# Altium integrated library Actel ProASIC3E.IntLib: 182 symbols (part 11 of 49)
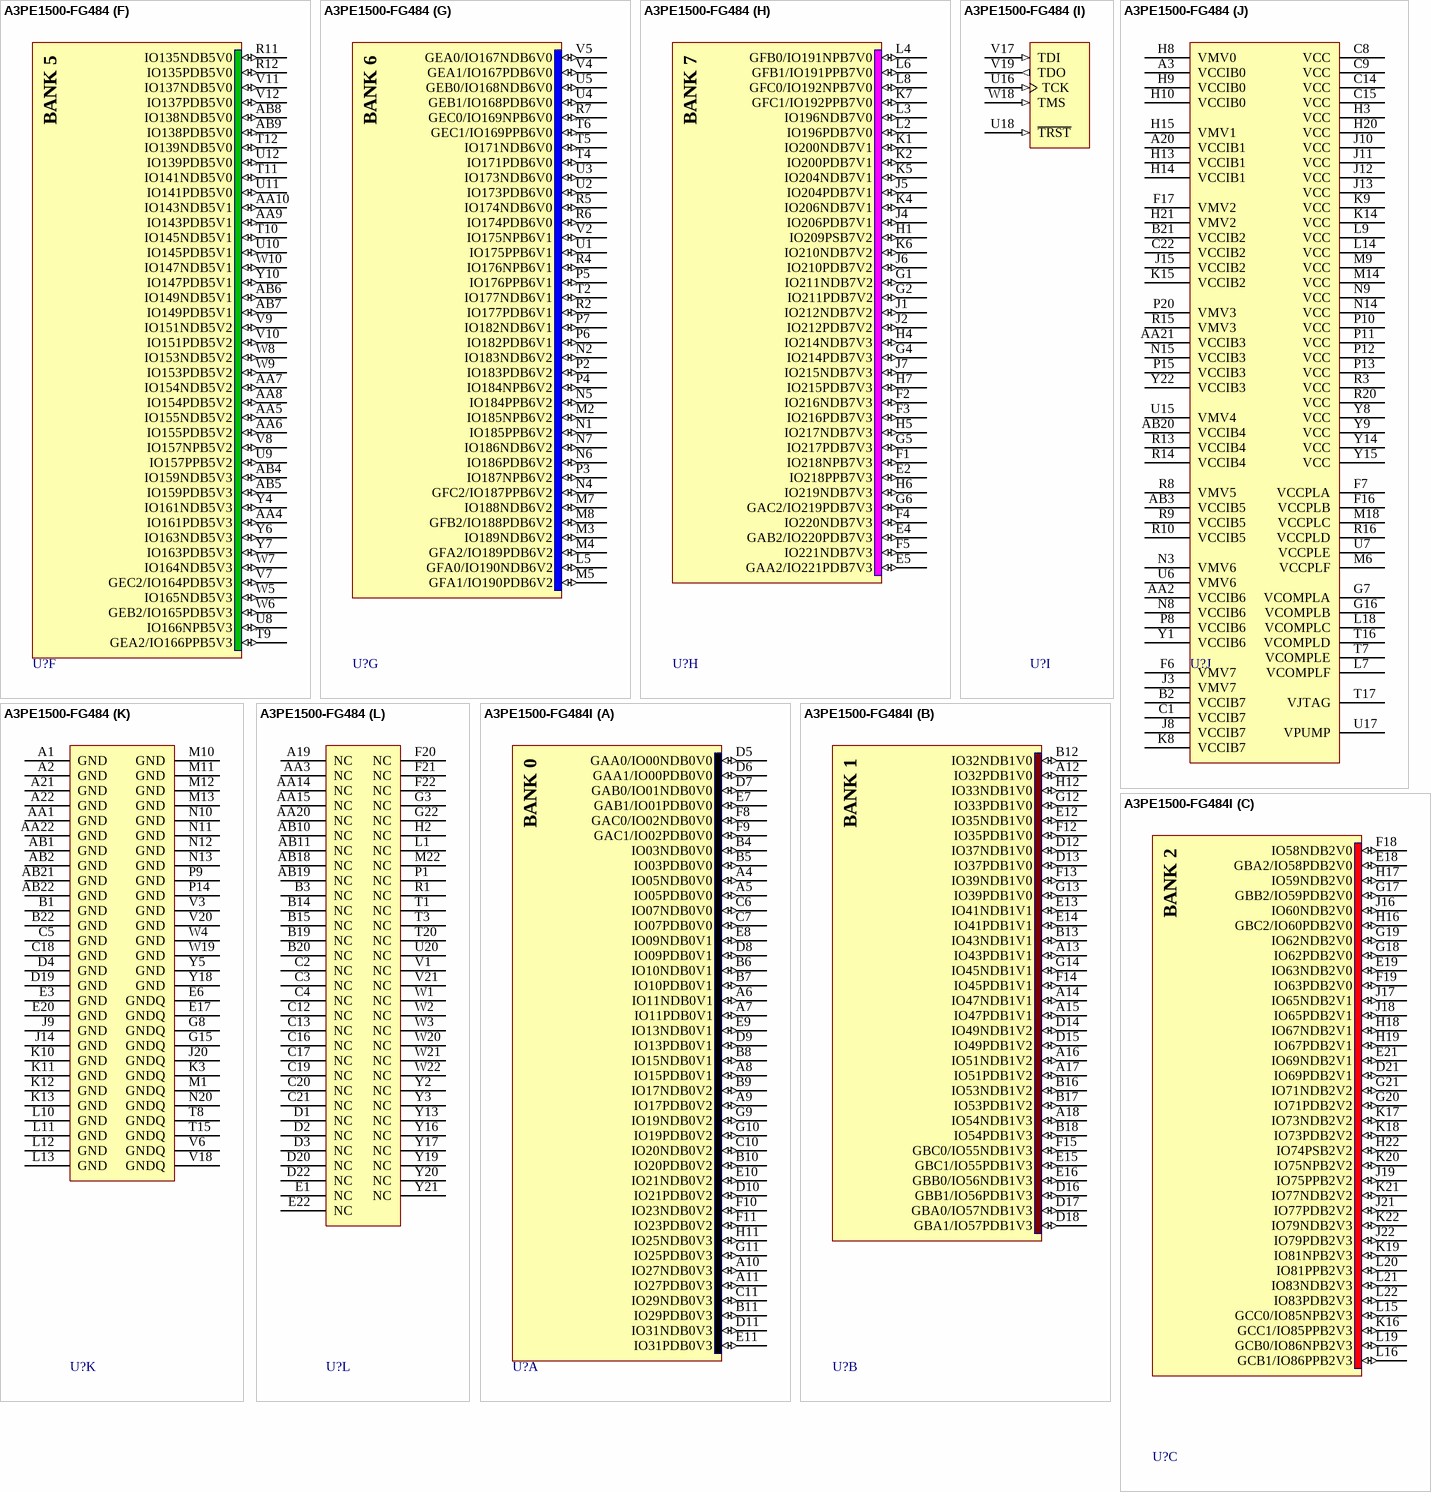
[diagram p221: symbols A3PE1500-FG484 to A3PE1500-FG484I]

## A3PE1500-FG484
designator U?
ProASIC3E Flash Family FPGA, 280 User IOs, 1.5M System Gates, 270 Kbits RAM, 1 Kbit FlashROM, 6 PLLs, 484-Ball FBGA, Commercial Grade; DatasheetVersion: v1.1, Feb-2009; PackageVersion: rev39, Aug-2010; PackageReference: FG484; PackageDescription: 484-Ball Fine Pitch Plastic Ball Grid Array (FG484) - Fully Populated; Code_JEDEC: MS-034-AAJ-1; Code_IPC: BGA100P22X22-484; ComponentLink1Description: Manufacturer URL; ComponentLink1URL: http://www.actel.com/; ComponentLink2Description: ProASIC3 Datasheet; ComponentLink2URL: http://www.actel.com/documents/PA3E_DS.pdf; ComponentLink3Description: Package Mechanical Drawings; ComponentLink3URL: http://www.actel.com/documents/PckgMechDrwngs.pdf; ComponentLink4Description: ProASIC3 Documents; ComponentLink4URL: http://www.actel.com/products/pa3/docs.aspx
footprint FG484 (BGA, 484-Leads, Body 23x23mm, Pitch 1mm)
part A pins: A4 IO05NDB0V0 (io), A5 IO05PDB0V0 (io), A6 IO11NDB0V1 (io), A7 IO11PDB0V1 (io), A8 IO15PDB0V1 (io), A9 IO17PDB0V2 (io), A10 IO27NDB0V3 (io), A11 IO27PDB0V3 (io), B4 IO03NDB0V0 (io), B5 IO03PDB0V0 (io), B6 IO10NDB0V1 (io), B7 IO10PDB0V1 (io), B8 IO15NDB0V1 (io), B9 IO17NDB0V2 (io), B10 IO20PDB0V2 (io), B11 IO29PDB0V3 (io), C6 IO07NDB0V0 (io), C7 IO07PDB0V0 (io), C10 IO20NDB0V2 (io), C11 IO29NDB0V3 (io), D5 GAA0/IO00NDB0V0 (io), D6 GAA1/IO00PDB0V0 (io), D7 GAB0/IO01NDB0V0 (io), D8 IO09PDB0V1 (io), D9 IO13PDB0V1 (io), D10 IO21PDB0V2 (io), D11 IO31NDB0V3 (io), E7 GAB1/IO01PDB0V0 (io), E8 IO09NDB0V1 (io), E9 IO13NDB0V1 (io), E10 IO21NDB0V2 (io), E11 IO31PDB0V3 (io), F8 GAC0/IO02NDB0V0 (io), F9 GAC1/IO02PDB0V0 (io), F10 IO23NDB0V2 (io), F11 IO23PDB0V2 (io), G9 IO19NDB0V2 (io), G10 IO19PDB0V2 (io), G11 IO25PDB0V3 (io), H11 IO25NDB0V3 (io)
part B pins: A12 IO32PDB1V0 (io), A13 IO43PDB1V1 (io), A14 IO47NDB1V1 (io), A15 IO47PDB1V1 (io), A16 IO51NDB1V2 (io), A17 IO51PDB1V2 (io), A18 IO54NDB1V3 (io), B12 IO32NDB1V0 (io), B13 IO43NDB1V1 (io), B16 IO53NDB1V2 (io), B17 IO53PDB1V2 (io), B18 IO54PDB1V3 (io), D12 IO37NDB1V0 (io), D13 IO37PDB1V0 (io), D14 IO49NDB1V2 (io), D15 IO49PDB1V2 (io), D16 GBB1/IO56PDB1V3 (io), D17 GBA0/IO57NDB1V3 (io), D18 GBA1/IO57PDB1V3 (io), E12 IO35NDB1V0 (io), E13 IO41NDB1V1 (io), E14 IO41PDB1V1 (io), E15 GBC1/IO55PDB1V3 (io), E16 GBB0/IO56NDB1V3 (io), F12 IO35PDB1V0 (io), F13 IO39NDB1V0 (io), F14 IO45PDB1V1 (io), F15 GBC0/IO55NDB1V3 (io), G12 IO33PDB1V0 (io), G13 IO39PDB1V0 (io), G14 IO45NDB1V1 (io), H12 IO33NDB1V0 (io)
part C pins: D21 IO69PDB2V1 (io), E18 GBA2/IO58PDB2V0 (io), E19 IO63NDB2V0 (io), E21 IO69NDB2V1 (io), F18 IO58NDB2V0 (io), F19 IO63PDB2V0 (io), G17 GBB2/IO59PDB2V0 (io), G18 IO62PDB2V0 (io), G19 IO62NDB2V0 (io), G20 IO71PDB2V2 (io), G21 IO71NDB2V2 (io), H16 GBC2/IO60PDB2V0 (io), H17 IO59NDB2V0 (io), H18 IO67NDB2V1 (io), H19 IO67PDB2V1 (io), H22 IO74PSB2V2 (io), J16 IO60NDB2V0 (io), J17 IO65NDB2V1 (io), J18 IO65PDB2V1 (io), J19 IO75PPB2V2 (io), J21 IO77PDB2V2 (io), J22 IO79PDB2V3 (io), K16 GCC1/IO85PPB2V3 (io), K17 IO73NDB2V2 (io), K18 IO73PDB2V2 (io), K19 IO81NPB2V3 (io), K20 IO75NPB2V2 (io), K21 IO77NDB2V2 (io), K22 IO79NDB2V3 (io), L15 GCC0/IO85NPB2V3 (io), L16 GCB1/IO86PPB2V3 (io), L19 GCB0/IO86NPB2V3 (io), L20 IO81PPB2V3 (io), L21 IO83NDB2V3 (io), L22 IO83PDB2V3 (io)
part D pins: L17 GCA0/IO87NPB3V0 (io), M15 GCB2/IO89PPB3V0 (io), M16 GCA1/IO87PPB3V0 (io), M17 GCC2/IO90PPB3V0 (io), M19 GCA2/IO88PDB3V0 (io), M20 IO88NDB3V0 (io), M21 IO93PDB3V0 (io), N16 IO89NPB3V0 (io), N17 IO91NPB3V0 (io), N18 IO90NPB3V0 (io), N19 IO91PPB3V0 (io), N21 IO93NDB3V0 (io), N22 IO95PDB3V1 (io), P16 GDB0/IO109NPB3V2 (io), P17 IO97NDB3V1 (io), P18 IO97PDB3V1 (io), P19 IO99PDB3V1 (io), P21 IO98PDB3V1 (io), P22 IO95NDB3V1 (io), R17 GDB1/IO109PPB3V2 (io), R18 GDC1/IO108PDB3V2 (io), R19 IO99NDB3V1 (io), R21 IO98NDB3V1 (io), R22 IO101PDB3V1 (io), T18 GDC0/IO108NDB3V2 (io), T19 GDA1/IO110PDB3V2 (io), T21 IO103PDB3V2 (io), T22 IO101NDB3V1 (io), U19 GDA0/IO110NDB3V2 (io), U21 IO103NDB3V2 (io), U22 IO105PDB3V2 (io), V22 IO105NDB3V2 (io)
part E pins: AA11 IO131PPB4V2 (io), AA12 IO129NDB4V2 (io), AA13 IO129PDB4V2 (io), AA16 IO117NDB4V0 (io), AA17 IO117PDB4V0 (io), AA18 IO115NDB4V0 (io), AA19 IO115PDB4V0 (io), AB12 IO127NDB4V2 (io), AB13 IO127PDB4V2 (io), AB14 IO125NDB4V1 (io), AB15 IO125PDB4V1 (io), AB16 IO122NDB4V1 (io), AB17 IO122PDB4V1 (io), T13 IO119NDB4V1 (io), T14 IO119PDB4V1 (io), U13 IO121NDB4V1 (io), U14 IO121PDB4V1 (io), V13 IO123NDB4V1 (io), V14 IO123PDB4V1 (io), V15 IO112NDB4V0 (io), V16 GDB2/IO112PDB4V0 (io), W11 IO133NDB4V2 (io), W12 IO130NDB4V2 (io), W13 IO130PDB4V2 (io), W14 IO113NDB4V0 (io), W15 GDC2/IO113PDB4V0 (io), W16 IO111NDB4V0 (io), W17 GDA2/IO111PDB4V0 (io), Y11 IO133PDB4V2 (io), Y12 IO131NPB4V2 (io)
part F pins: AA4 IO161PDB5V3 (io), AA5 IO155NDB5V2 (io), AA6 IO155PDB5V2 (io), AA7 IO154NDB5V2 (io), AA8 IO154PDB5V2 (io), AA9 IO143PDB5V1 (io), AA10 IO143NDB5V1 (io), AB4 IO159NDB5V3 (io), AB5 IO159PDB5V3 (io), AB6 IO149NDB5V1 (io), AB7 IO149PDB5V1 (io), AB8 IO138NDB5V0 (io), AB9 IO138PDB5V0 (io), R11 IO135NDB5V0 (io), R12 IO135PDB5V0 (io), T9 GEA2/IO166PPB5V3 (io), T10 IO145NDB5V1 (io), T11 IO141NDB5V0 (io), T12 IO139NDB5V0 (io), U8 IO166NPB5V3 (io), U9 IO157PPB5V2 (io), U10 IO145PDB5V1 (io), U11 IO141PDB5V0 (io), U12 IO139PDB5V0 (io), V7 GEC2/IO164PDB5V3 (io), V8 IO157NPB5V2 (io), V9 IO151NDB5V2 (io), V10 IO151PDB5V2 (io), V11 IO137NDB5V0 (io), V12 IO137PDB5V0 (io), W5 IO165NDB5V3 (io), W6 GEB2/IO165PDB5V3 (io), W7 IO164NDB5V3 (io), W8 IO153NDB5V2 (io), W9 IO153PDB5V2 (io), W10 IO147NDB5V1 (io), Y4 IO161NDB5V3 (io), Y6 IO163NDB5V3 (io), Y7 IO163PDB5V3 (io), Y10 IO147PDB5V1 (io)
part G pins: L5 GFA0/IO190NDB6V2 (io), M2 IO185NPB6V2 (io), M3 IO189NDB6V2 (io), M4 GFA2/IO189PDB6V2 (io), M5 GFA1/IO190PDB6V2 (io), M7 IO188NDB6V2 (io), M8 GFB2/IO188PDB6V2 (io), N1 IO185PPB6V2 (io), N2 IO183NDB6V2 (io), N4 GFC2/IO187PPB6V2 (io), N5 IO184PPB6V2 (io), N6 IO186PDB6V2 (io), N7 IO186NDB6V2 (io), P2 IO183PDB6V2 (io), P3 IO187NPB6V2 (io), P4 IO184NPB6V2 (io), P5 IO176PPB6V1 (io), P6 IO182PDB6V1 (io), P7 IO182NDB6V1 (io), R2 IO177PDB6V1 (io), R4 IO176NPB6V1 (io), R5 IO174NDB6V0 (io), R6 IO174PDB6V0 (io), R7 GEC0/IO169NPB6V0 (io), T2 IO177NDB6V1 (io), T4 IO171PDB6V0 (io), T5 IO171NDB6V0 (io), T6 GEC1/IO169PPB6V0 (io), U1 IO175PPB6V1 (io), U2 IO173PDB6V0 (io), U3 IO173NDB6V0 (io), U4 GEB1/IO168PDB6V0 (io), U5 GEB0/IO168NDB6V0 (io), V2 IO175NPB6V1 (io), V4 GEA1/IO167PDB6V0 (io), V5 GEA0/IO167NDB6V0 (io)
part H pins: E2 IO218PPB7V3 (io), E4 GAB2/IO220PDB7V3 (io), E5 GAA2/IO221PDB7V3 (io), F1 IO218NPB7V3 (io), F2 IO216NDB7V3 (io), F3 IO216PDB7V3 (io), F4 IO220NDB7V3 (io), F5 IO221NDB7V3 (io), G1 IO211NDB7V2 (io), G2 IO211PDB7V2 (io), G4 IO214PDB7V3 (io), G5 IO217PDB7V3 (io), G6 GAC2/IO219PDB7V3 (io), H1 IO209PSB7V2 (io), H4 IO214NDB7V3 (io), H5 IO217NDB7V3 (io), H6 IO219NDB7V3 (io), H7 IO215PDB7V3 (io), J1 IO212NDB7V2 (io), J2 IO212PDB7V2 (io), J4 IO206PDB7V1 (io), J5 IO204PDB7V1 (io), J6 IO210PDB7V2 (io), J7 IO215NDB7V3 (io), K1 IO200NDB7V1 (io), K2 IO200PDB7V1 (io), K4 IO206NDB7V1 (io), K5 IO204NDB7V1 (io), K6 IO210NDB7V2 (io), K7 GFC1/IO192PPB7V0 (io), L2 IO196PDB7V0 (io), L3 IO196NDB7V0 (io), L4 GFB0/IO191NPB7V0 (io), L6 GFB1/IO191PPB7V0 (io), L8 GFC0/IO192NPB7V0 (io)
part I pins: U16 TCK (in), U18 ~{TRST} (in), V17 TDI (in), V19 TDO (out), W18 TMS (in)
part J pins: A3 VCCIB0 (power), A20 VCCIB1 (power), AA2 VCCIB6 (power), AA21 VCCIB3 (power), AB3 VCCIB5 (power), AB20 VCCIB4 (power), B2 VCCIB7 (power), B21 VCCIB2 (power), C1 VCCIB7 (power), C8 VCC (power), C9 VCC (power), C14 VCC (power), C15 VCC (power), C22 VCCIB2 (power), F6 VMV7 (power), F7 VCCPLA (power), F16 VCCPLB (power), F17 VMV2 (power), G7 VCOMPLA (power), G16 VCOMPLB (power), H3 VCC (power), H8 VMV0 (power), H9 VCCIB0 (power), H10 VCCIB0 (power), H13 VCCIB1 (power), H14 VCCIB1 (power), H15 VMV1 (power), H20 VCC (power), H21 VMV2 (power), J3 VMV7 (power), J8 VCCIB7 (power), J10 VCC (power), J11 VCC (power), J12 VCC (power), J13 VCC (power), J15 VCCIB2 (power), K8 VCCIB7 (power), K9 VCC (power), K14 VCC (power), K15 VCCIB2 (power), L7 VCOMPLF (power), L9 VCC (power), L14 VCC (power), L18 VCOMPLC (power), M6 VCCPLF (power), M9 VCC (power), M14 VCC (power), M18 VCCPLC (power), N3 VMV6 (power), N8 VCCIB6 (power), N9 VCC (power), N14 VCC (power), N15 VCCIB3 (power), P8 VCCIB6 (power), P10 VCC (power), P11 VCC (power), P12 VCC (power), P13 VCC (power), P15 VCCIB3 (power), P20 VMV3 (power), R3 VCC (power), R8 VMV5 (power), R9 VCCIB5 (power), R10 VCCIB5 (power), R13 VCCIB4 (power), R14 VCCIB4 (power), R15 VMV3 (power), R16 VCCPLD (power), R20 VCC (power), T7 VCOMPLE (power), T16 VCOMPLD (power), T17 VJTAG (power), U6 VMV6 (power), U7 VCCPLE (power), U15 VMV4 (power), U17 VPUMP (power), Y1 VCCIB6 (power), Y8 VCC (power), Y9 VCC (power), Y14 VCC (power), Y15 VCC (power), Y22 VCCIB3 (power)
part K pins: A1 GND (power), A2 GND (power), A21 GND (power), A22 GND (power), AA1 GND (power), AA22 GND (power), AB1 GND (power), AB2 GND (power), AB21 GND (power), AB22 GND (power), B1 GND (power), B22 GND (power), C5 GND (power), C18 GND (power), D4 GND (power), D19 GND (power), E3 GND (power), E6 GNDQ (power), E17 GNDQ (power), E20 GND (power), G8 GNDQ (power), G15 GNDQ (power), J9 GND (power), J14 GND (power), J20 GNDQ (power), K3 GNDQ (power), K10 GND (power), K11 GND (power), K12 GND (power), K13 GND (power), L10 GND (power), L11 GND (power), L12 GND (power), L13 GND (power), M1 GNDQ (power), M10 GND (power), M11 GND (power), M12 GND (power), M13 GND (power), N10 GND (power), N11 GND (power), N12 GND (power), N13 GND (power), N20 GNDQ (power), P9 GND (power), P14 GND (power), T8 GNDQ (power), T15 GNDQ (power), V3 GND (power), V6 GNDQ (power), V18 GNDQ (power), V20 GND (power), W4 GND (power), W19 GND (power), Y5 GND (power), Y18 GND (power)
part L pins: A19 NC, AA3 NC, AA14 NC, AA15 NC, AA20 NC, AB10 NC, AB11 NC, AB18 NC, AB19 NC, B3 NC, B14 NC, B15 NC, B19 NC, B20 NC, C2 NC, C3 NC, C4 NC, C12 NC, C13 NC, C16 NC, C17 NC, C19 NC, C20 NC, C21 NC, D1 NC, D2 NC, D3 NC, D20 NC, D22 NC, E1 NC, E22 NC, F20 NC, F21 NC, F22 NC, G3 NC, G22 NC, H2 NC, L1 NC, M22 NC, P1 NC, R1 NC, T1 NC, T3 NC, T20 NC, U20 NC, V1 NC, V21 NC, W1 NC, W2 NC, W3 NC, W20 NC, W21 NC, W22 NC, Y2 NC, Y3 NC, Y13 NC, Y16 NC, Y17 NC, Y19 NC, Y20 NC, Y21 NC
part A text: BANK 0
part B text: BANK 1
part C text: BANK 2
part D text: BANK 3
part E text: BANK 4
part F text: BANK 5
part G text: BANK 6
part H text: BANK 7

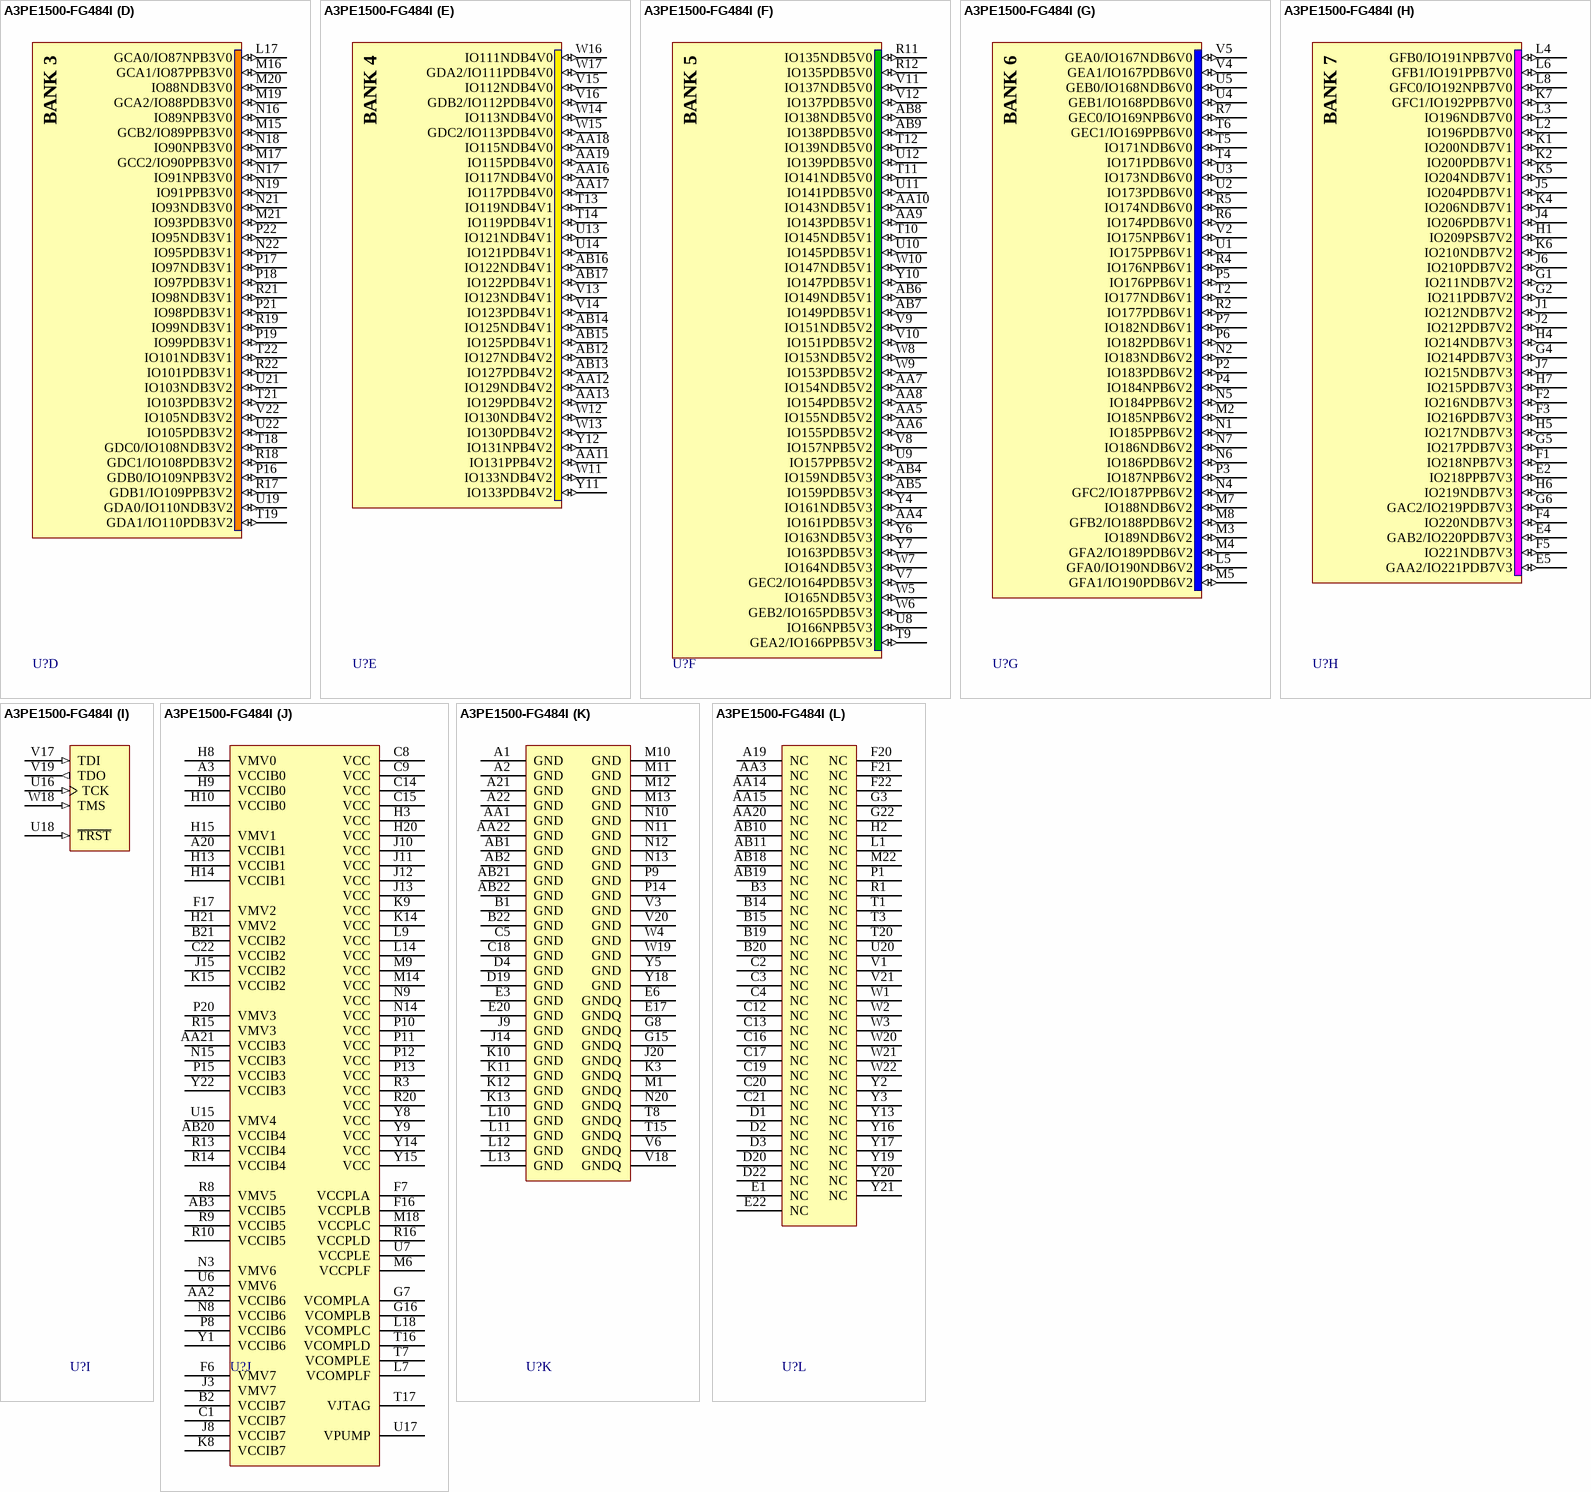
[diagram p38: symbol A3PE1500-FG484I]

## A3PE1500-FG484I
designator U?
ProASIC3E Flash Family FPGA, 280 User IOs, 1.5M System Gates, 270 Kbits RAM, 1 Kbit FlashROM, 6 PLLs, 484-Ball FBGA, Industrial Grade; DatasheetVersion: v1.1, Feb-2009; PackageVersion: rev39, Aug-2010; PackageReference: FG484; PackageDescription: 484-Ball Fine Pitch Plastic Ball Grid Array (FG484) - Fully Populated; Code_JEDEC: MS-034-AAJ-1; Code_IPC: BGA100P22X22-484; ComponentLink1Description: Manufacturer URL; ComponentLink1URL: http://www.actel.com/; ComponentLink2Description: ProASIC3 Datasheet; ComponentLink2URL: http://www.actel.com/documents/PA3E_DS.pdf; ComponentLink3Description: Package Mechanical Drawings; ComponentLink3URL: http://www.actel.com/documents/PckgMechDrwngs.pdf; ComponentLink4Description: ProASIC3 Documents; ComponentLink4URL: http://www.actel.com/products/pa3/docs.aspx
footprint FG484 (BGA, 484-Leads, Body 23x23mm, Pitch 1mm)
part A pins: A4 IO05NDB0V0 (io), A5 IO05PDB0V0 (io), A6 IO11NDB0V1 (io), A7 IO11PDB0V1 (io), A8 IO15PDB0V1 (io), A9 IO17PDB0V2 (io), A10 IO27NDB0V3 (io), A11 IO27PDB0V3 (io), B4 IO03NDB0V0 (io), B5 IO03PDB0V0 (io), B6 IO10NDB0V1 (io), B7 IO10PDB0V1 (io), B8 IO15NDB0V1 (io), B9 IO17NDB0V2 (io), B10 IO20PDB0V2 (io), B11 IO29PDB0V3 (io), C6 IO07NDB0V0 (io), C7 IO07PDB0V0 (io), C10 IO20NDB0V2 (io), C11 IO29NDB0V3 (io), D5 GAA0/IO00NDB0V0 (io), D6 GAA1/IO00PDB0V0 (io), D7 GAB0/IO01NDB0V0 (io), D8 IO09PDB0V1 (io), D9 IO13PDB0V1 (io), D10 IO21PDB0V2 (io), D11 IO31NDB0V3 (io), E7 GAB1/IO01PDB0V0 (io), E8 IO09NDB0V1 (io), E9 IO13NDB0V1 (io), E10 IO21NDB0V2 (io), E11 IO31PDB0V3 (io), F8 GAC0/IO02NDB0V0 (io), F9 GAC1/IO02PDB0V0 (io), F10 IO23NDB0V2 (io), F11 IO23PDB0V2 (io), G9 IO19NDB0V2 (io), G10 IO19PDB0V2 (io), G11 IO25PDB0V3 (io), H11 IO25NDB0V3 (io)
part B pins: A12 IO32PDB1V0 (io), A13 IO43PDB1V1 (io), A14 IO47NDB1V1 (io), A15 IO47PDB1V1 (io), A16 IO51NDB1V2 (io), A17 IO51PDB1V2 (io), A18 IO54NDB1V3 (io), B12 IO32NDB1V0 (io), B13 IO43NDB1V1 (io), B16 IO53NDB1V2 (io), B17 IO53PDB1V2 (io), B18 IO54PDB1V3 (io), D12 IO37NDB1V0 (io), D13 IO37PDB1V0 (io), D14 IO49NDB1V2 (io), D15 IO49PDB1V2 (io), D16 GBB1/IO56PDB1V3 (io), D17 GBA0/IO57NDB1V3 (io), D18 GBA1/IO57PDB1V3 (io), E12 IO35NDB1V0 (io), E13 IO41NDB1V1 (io), E14 IO41PDB1V1 (io), E15 GBC1/IO55PDB1V3 (io), E16 GBB0/IO56NDB1V3 (io), F12 IO35PDB1V0 (io), F13 IO39NDB1V0 (io), F14 IO45PDB1V1 (io), F15 GBC0/IO55NDB1V3 (io), G12 IO33PDB1V0 (io), G13 IO39PDB1V0 (io), G14 IO45NDB1V1 (io), H12 IO33NDB1V0 (io)
part C pins: D21 IO69PDB2V1 (io), E18 GBA2/IO58PDB2V0 (io), E19 IO63NDB2V0 (io), E21 IO69NDB2V1 (io), F18 IO58NDB2V0 (io), F19 IO63PDB2V0 (io), G17 GBB2/IO59PDB2V0 (io), G18 IO62PDB2V0 (io), G19 IO62NDB2V0 (io), G20 IO71PDB2V2 (io), G21 IO71NDB2V2 (io), H16 GBC2/IO60PDB2V0 (io), H17 IO59NDB2V0 (io), H18 IO67NDB2V1 (io), H19 IO67PDB2V1 (io), H22 IO74PSB2V2 (io), J16 IO60NDB2V0 (io), J17 IO65NDB2V1 (io), J18 IO65PDB2V1 (io), J19 IO75PPB2V2 (io), J21 IO77PDB2V2 (io), J22 IO79PDB2V3 (io), K16 GCC1/IO85PPB2V3 (io), K17 IO73NDB2V2 (io), K18 IO73PDB2V2 (io), K19 IO81NPB2V3 (io), K20 IO75NPB2V2 (io), K21 IO77NDB2V2 (io), K22 IO79NDB2V3 (io), L15 GCC0/IO85NPB2V3 (io), L16 GCB1/IO86PPB2V3 (io), L19 GCB0/IO86NPB2V3 (io), L20 IO81PPB2V3 (io), L21 IO83NDB2V3 (io), L22 IO83PDB2V3 (io)
part D pins: L17 GCA0/IO87NPB3V0 (io), M15 GCB2/IO89PPB3V0 (io), M16 GCA1/IO87PPB3V0 (io), M17 GCC2/IO90PPB3V0 (io), M19 GCA2/IO88PDB3V0 (io), M20 IO88NDB3V0 (io), M21 IO93PDB3V0 (io), N16 IO89NPB3V0 (io), N17 IO91NPB3V0 (io), N18 IO90NPB3V0 (io), N19 IO91PPB3V0 (io), N21 IO93NDB3V0 (io), N22 IO95PDB3V1 (io), P16 GDB0/IO109NPB3V2 (io), P17 IO97NDB3V1 (io), P18 IO97PDB3V1 (io), P19 IO99PDB3V1 (io), P21 IO98PDB3V1 (io), P22 IO95NDB3V1 (io), R17 GDB1/IO109PPB3V2 (io), R18 GDC1/IO108PDB3V2 (io), R19 IO99NDB3V1 (io), R21 IO98NDB3V1 (io), R22 IO101PDB3V1 (io), T18 GDC0/IO108NDB3V2 (io), T19 GDA1/IO110PDB3V2 (io), T21 IO103PDB3V2 (io), T22 IO101NDB3V1 (io), U19 GDA0/IO110NDB3V2 (io), U21 IO103NDB3V2 (io), U22 IO105PDB3V2 (io), V22 IO105NDB3V2 (io)
part E pins: AA11 IO131PPB4V2 (io), AA12 IO129NDB4V2 (io), AA13 IO129PDB4V2 (io), AA16 IO117NDB4V0 (io), AA17 IO117PDB4V0 (io), AA18 IO115NDB4V0 (io), AA19 IO115PDB4V0 (io), AB12 IO127NDB4V2 (io), AB13 IO127PDB4V2 (io), AB14 IO125NDB4V1 (io), AB15 IO125PDB4V1 (io), AB16 IO122NDB4V1 (io), AB17 IO122PDB4V1 (io), T13 IO119NDB4V1 (io), T14 IO119PDB4V1 (io), U13 IO121NDB4V1 (io), U14 IO121PDB4V1 (io), V13 IO123NDB4V1 (io), V14 IO123PDB4V1 (io), V15 IO112NDB4V0 (io), V16 GDB2/IO112PDB4V0 (io), W11 IO133NDB4V2 (io), W12 IO130NDB4V2 (io), W13 IO130PDB4V2 (io), W14 IO113NDB4V0 (io), W15 GDC2/IO113PDB4V0 (io), W16 IO111NDB4V0 (io), W17 GDA2/IO111PDB4V0 (io), Y11 IO133PDB4V2 (io), Y12 IO131NPB4V2 (io)
part F pins: AA4 IO161PDB5V3 (io), AA5 IO155NDB5V2 (io), AA6 IO155PDB5V2 (io), AA7 IO154NDB5V2 (io), AA8 IO154PDB5V2 (io), AA9 IO143PDB5V1 (io), AA10 IO143NDB5V1 (io), AB4 IO159NDB5V3 (io), AB5 IO159PDB5V3 (io), AB6 IO149NDB5V1 (io), AB7 IO149PDB5V1 (io), AB8 IO138NDB5V0 (io), AB9 IO138PDB5V0 (io), R11 IO135NDB5V0 (io), R12 IO135PDB5V0 (io), T9 GEA2/IO166PPB5V3 (io), T10 IO145NDB5V1 (io), T11 IO141NDB5V0 (io), T12 IO139NDB5V0 (io), U8 IO166NPB5V3 (io), U9 IO157PPB5V2 (io), U10 IO145PDB5V1 (io), U11 IO141PDB5V0 (io), U12 IO139PDB5V0 (io), V7 GEC2/IO164PDB5V3 (io), V8 IO157NPB5V2 (io), V9 IO151NDB5V2 (io), V10 IO151PDB5V2 (io), V11 IO137NDB5V0 (io), V12 IO137PDB5V0 (io), W5 IO165NDB5V3 (io), W6 GEB2/IO165PDB5V3 (io), W7 IO164NDB5V3 (io), W8 IO153NDB5V2 (io), W9 IO153PDB5V2 (io), W10 IO147NDB5V1 (io), Y4 IO161NDB5V3 (io), Y6 IO163NDB5V3 (io), Y7 IO163PDB5V3 (io), Y10 IO147PDB5V1 (io)
part G pins: L5 GFA0/IO190NDB6V2 (io), M2 IO185NPB6V2 (io), M3 IO189NDB6V2 (io), M4 GFA2/IO189PDB6V2 (io), M5 GFA1/IO190PDB6V2 (io), M7 IO188NDB6V2 (io), M8 GFB2/IO188PDB6V2 (io), N1 IO185PPB6V2 (io), N2 IO183NDB6V2 (io), N4 GFC2/IO187PPB6V2 (io), N5 IO184PPB6V2 (io), N6 IO186PDB6V2 (io), N7 IO186NDB6V2 (io), P2 IO183PDB6V2 (io), P3 IO187NPB6V2 (io), P4 IO184NPB6V2 (io), P5 IO176PPB6V1 (io), P6 IO182PDB6V1 (io), P7 IO182NDB6V1 (io), R2 IO177PDB6V1 (io), R4 IO176NPB6V1 (io), R5 IO174NDB6V0 (io), R6 IO174PDB6V0 (io), R7 GEC0/IO169NPB6V0 (io), T2 IO177NDB6V1 (io), T4 IO171PDB6V0 (io), T5 IO171NDB6V0 (io), T6 GEC1/IO169PPB6V0 (io), U1 IO175PPB6V1 (io), U2 IO173PDB6V0 (io), U3 IO173NDB6V0 (io), U4 GEB1/IO168PDB6V0 (io), U5 GEB0/IO168NDB6V0 (io), V2 IO175NPB6V1 (io), V4 GEA1/IO167PDB6V0 (io), V5 GEA0/IO167NDB6V0 (io)
part H pins: E2 IO218PPB7V3 (io), E4 GAB2/IO220PDB7V3 (io), E5 GAA2/IO221PDB7V3 (io), F1 IO218NPB7V3 (io), F2 IO216NDB7V3 (io), F3 IO216PDB7V3 (io), F4 IO220NDB7V3 (io), F5 IO221NDB7V3 (io), G1 IO211NDB7V2 (io), G2 IO211PDB7V2 (io), G4 IO214PDB7V3 (io), G5 IO217PDB7V3 (io), G6 GAC2/IO219PDB7V3 (io), H1 IO209PSB7V2 (io), H4 IO214NDB7V3 (io), H5 IO217NDB7V3 (io), H6 IO219NDB7V3 (io), H7 IO215PDB7V3 (io), J1 IO212NDB7V2 (io), J2 IO212PDB7V2 (io), J4 IO206PDB7V1 (io), J5 IO204PDB7V1 (io), J6 IO210PDB7V2 (io), J7 IO215NDB7V3 (io), K1 IO200NDB7V1 (io), K2 IO200PDB7V1 (io), K4 IO206NDB7V1 (io), K5 IO204NDB7V1 (io), K6 IO210NDB7V2 (io), K7 GFC1/IO192PPB7V0 (io), L2 IO196PDB7V0 (io), L3 IO196NDB7V0 (io), L4 GFB0/IO191NPB7V0 (io), L6 GFB1/IO191PPB7V0 (io), L8 GFC0/IO192NPB7V0 (io)
part I pins: U16 TCK (in), U18 ~{TRST} (in), V17 TDI (in), V19 TDO (out), W18 TMS (in)
part J pins: A3 VCCIB0 (power), A20 VCCIB1 (power), AA2 VCCIB6 (power), AA21 VCCIB3 (power), AB3 VCCIB5 (power), AB20 VCCIB4 (power), B2 VCCIB7 (power), B21 VCCIB2 (power), C1 VCCIB7 (power), C8 VCC (power), C9 VCC (power), C14 VCC (power), C15 VCC (power), C22 VCCIB2 (power), F6 VMV7 (power), F7 VCCPLA (power), F16 VCCPLB (power), F17 VMV2 (power), G7 VCOMPLA (power), G16 VCOMPLB (power), H3 VCC (power), H8 VMV0 (power), H9 VCCIB0 (power), H10 VCCIB0 (power), H13 VCCIB1 (power), H14 VCCIB1 (power), H15 VMV1 (power), H20 VCC (power), H21 VMV2 (power), J3 VMV7 (power), J8 VCCIB7 (power), J10 VCC (power), J11 VCC (power), J12 VCC (power), J13 VCC (power), J15 VCCIB2 (power), K8 VCCIB7 (power), K9 VCC (power), K14 VCC (power), K15 VCCIB2 (power), L7 VCOMPLF (power), L9 VCC (power), L14 VCC (power), L18 VCOMPLC (power), M6 VCCPLF (power), M9 VCC (power), M14 VCC (power), M18 VCCPLC (power), N3 VMV6 (power), N8 VCCIB6 (power), N9 VCC (power), N14 VCC (power), N15 VCCIB3 (power), P8 VCCIB6 (power), P10 VCC (power), P11 VCC (power), P12 VCC (power), P13 VCC (power), P15 VCCIB3 (power), P20 VMV3 (power), R3 VCC (power), R8 VMV5 (power), R9 VCCIB5 (power), R10 VCCIB5 (power), R13 VCCIB4 (power), R14 VCCIB4 (power), R15 VMV3 (power), R16 VCCPLD (power), R20 VCC (power), T7 VCOMPLE (power), T16 VCOMPLD (power), T17 VJTAG (power), U6 VMV6 (power), U7 VCCPLE (power), U15 VMV4 (power), U17 VPUMP (power), Y1 VCCIB6 (power), Y8 VCC (power), Y9 VCC (power), Y14 VCC (power), Y15 VCC (power), Y22 VCCIB3 (power)
part K pins: A1 GND (power), A2 GND (power), A21 GND (power), A22 GND (power), AA1 GND (power), AA22 GND (power), AB1 GND (power), AB2 GND (power), AB21 GND (power), AB22 GND (power), B1 GND (power), B22 GND (power), C5 GND (power), C18 GND (power), D4 GND (power), D19 GND (power), E3 GND (power), E6 GNDQ (power), E17 GNDQ (power), E20 GND (power), G8 GNDQ (power), G15 GNDQ (power), J9 GND (power), J14 GND (power), J20 GNDQ (power), K3 GNDQ (power), K10 GND (power), K11 GND (power), K12 GND (power), K13 GND (power), L10 GND (power), L11 GND (power), L12 GND (power), L13 GND (power), M1 GNDQ (power), M10 GND (power), M11 GND (power), M12 GND (power), M13 GND (power), N10 GND (power), N11 GND (power), N12 GND (power), N13 GND (power), N20 GNDQ (power), P9 GND (power), P14 GND (power), T8 GNDQ (power), T15 GNDQ (power), V3 GND (power), V6 GNDQ (power), V18 GNDQ (power), V20 GND (power), W4 GND (power), W19 GND (power), Y5 GND (power), Y18 GND (power)
part L pins: A19 NC, AA3 NC, AA14 NC, AA15 NC, AA20 NC, AB10 NC, AB11 NC, AB18 NC, AB19 NC, B3 NC, B14 NC, B15 NC, B19 NC, B20 NC, C2 NC, C3 NC, C4 NC, C12 NC, C13 NC, C16 NC, C17 NC, C19 NC, C20 NC, C21 NC, D1 NC, D2 NC, D3 NC, D20 NC, D22 NC, E1 NC, E22 NC, F20 NC, F21 NC, F22 NC, G3 NC, G22 NC, H2 NC, L1 NC, M22 NC, P1 NC, R1 NC, T1 NC, T3 NC, T20 NC, U20 NC, V1 NC, V21 NC, W1 NC, W2 NC, W3 NC, W20 NC, W21 NC, W22 NC, Y2 NC, Y3 NC, Y13 NC, Y16 NC, Y17 NC, Y19 NC, Y20 NC, Y21 NC
part A text: BANK 0
part B text: BANK 1
part C text: BANK 2
part D text: BANK 3
part E text: BANK 4
part F text: BANK 5
part G text: BANK 6
part H text: BANK 7

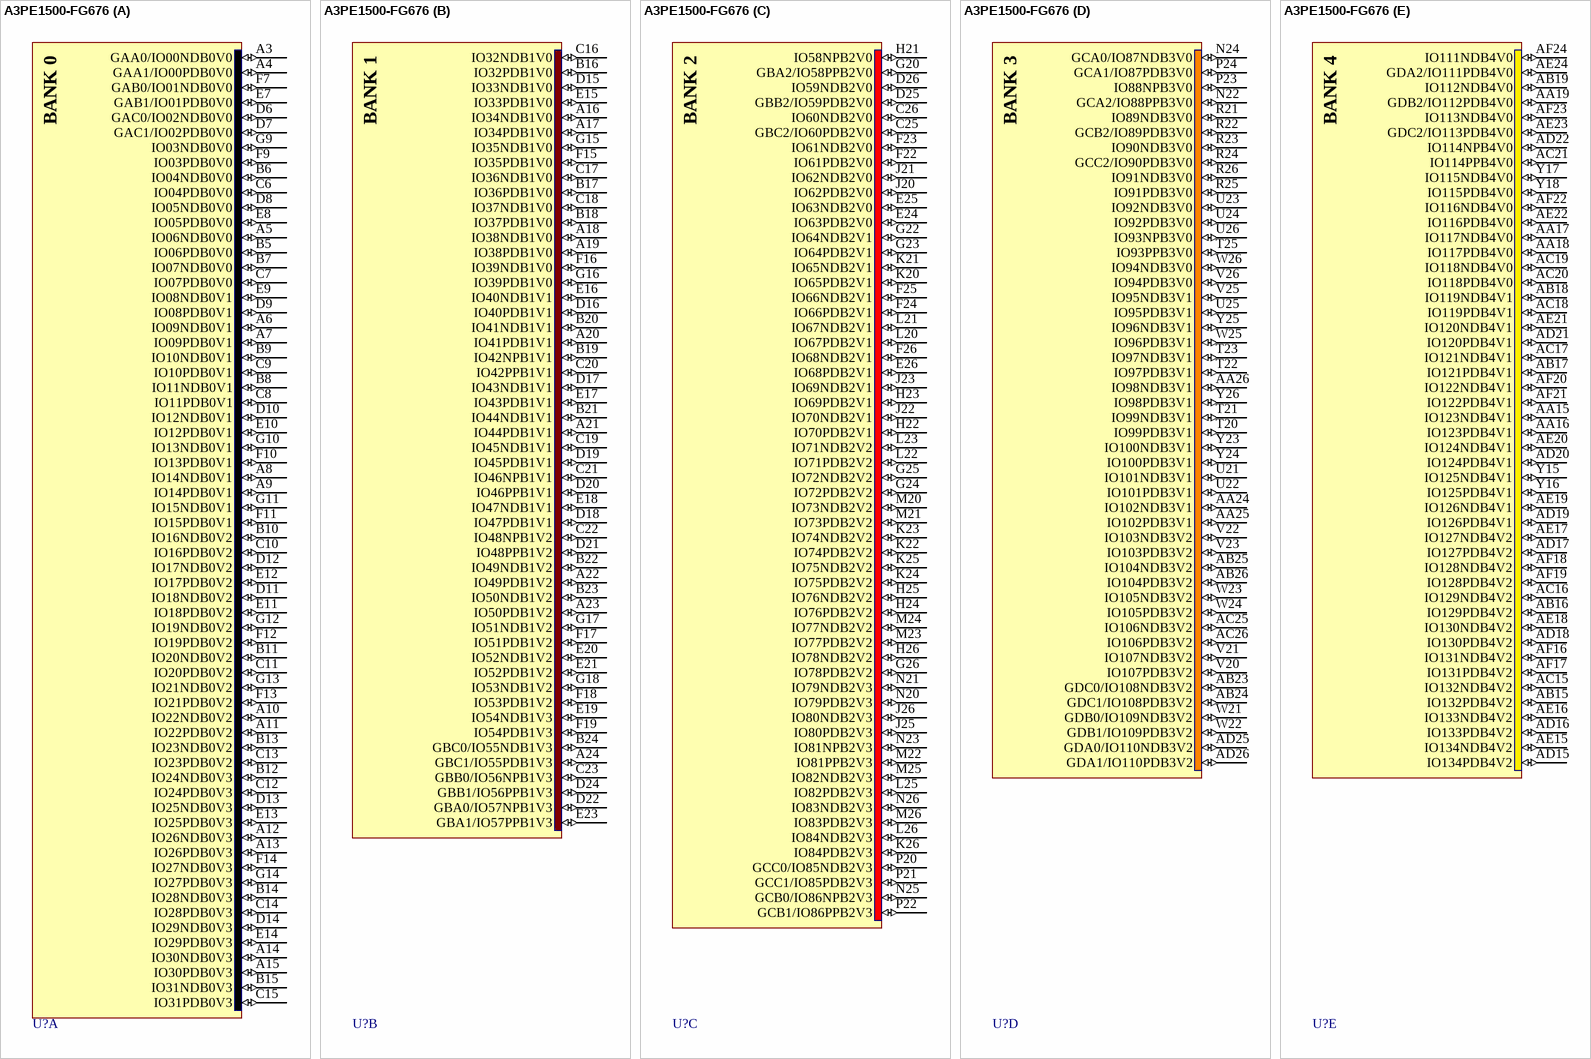
[diagram p39: symbol A3PE1500-FG676]

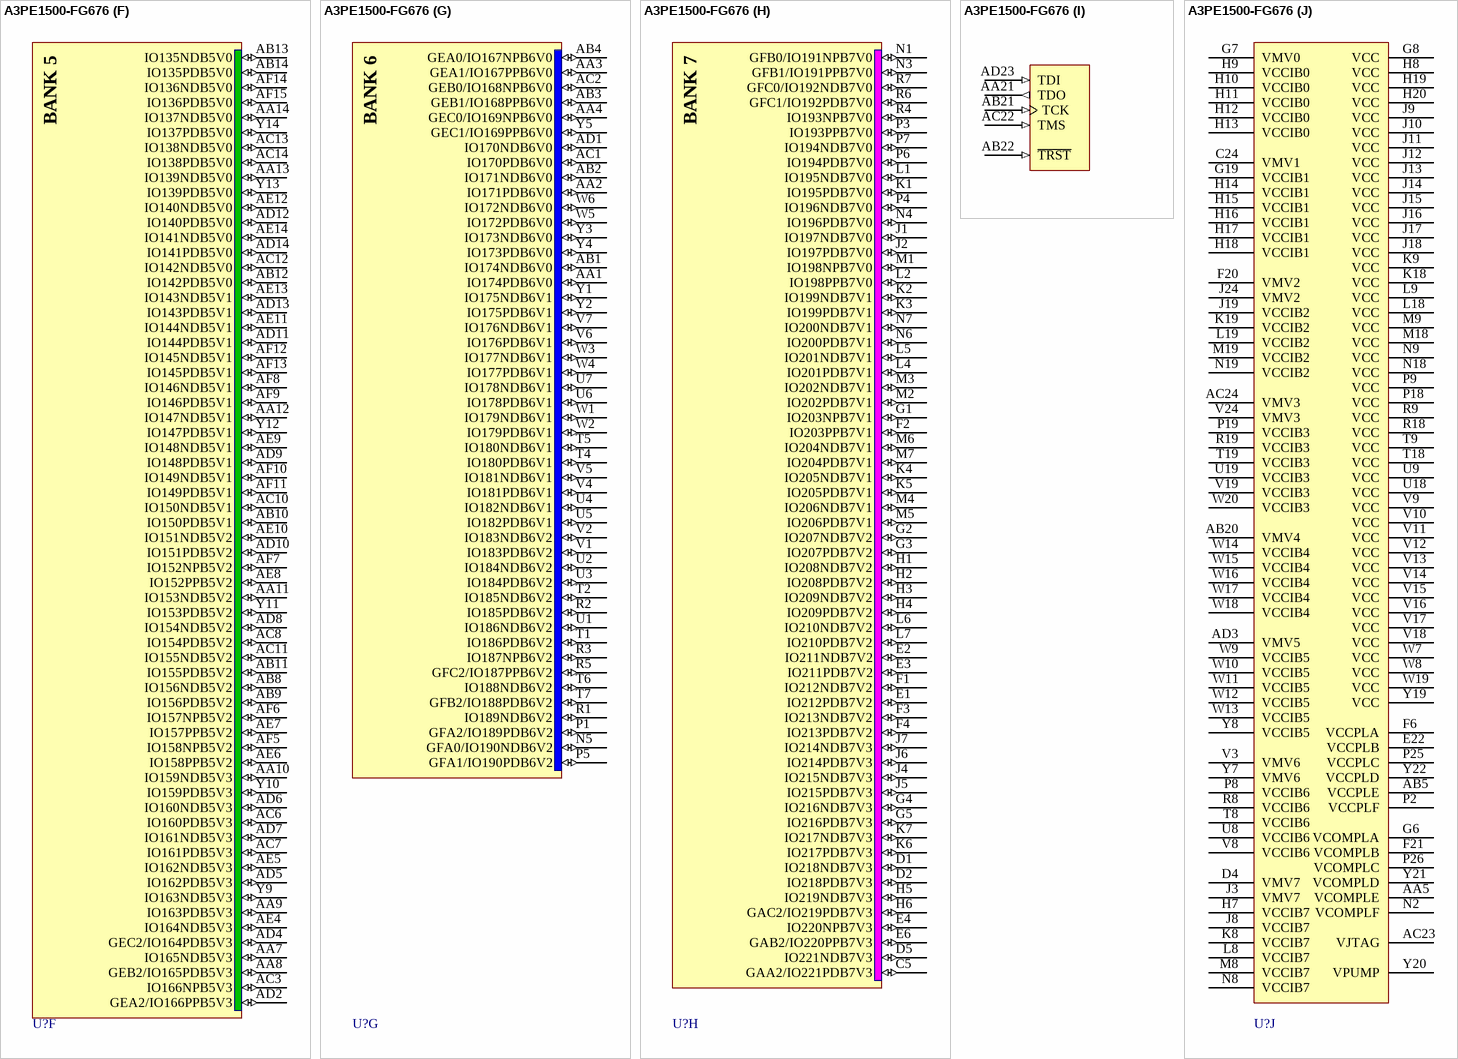
[diagram p40: symbol A3PE1500-FG676]

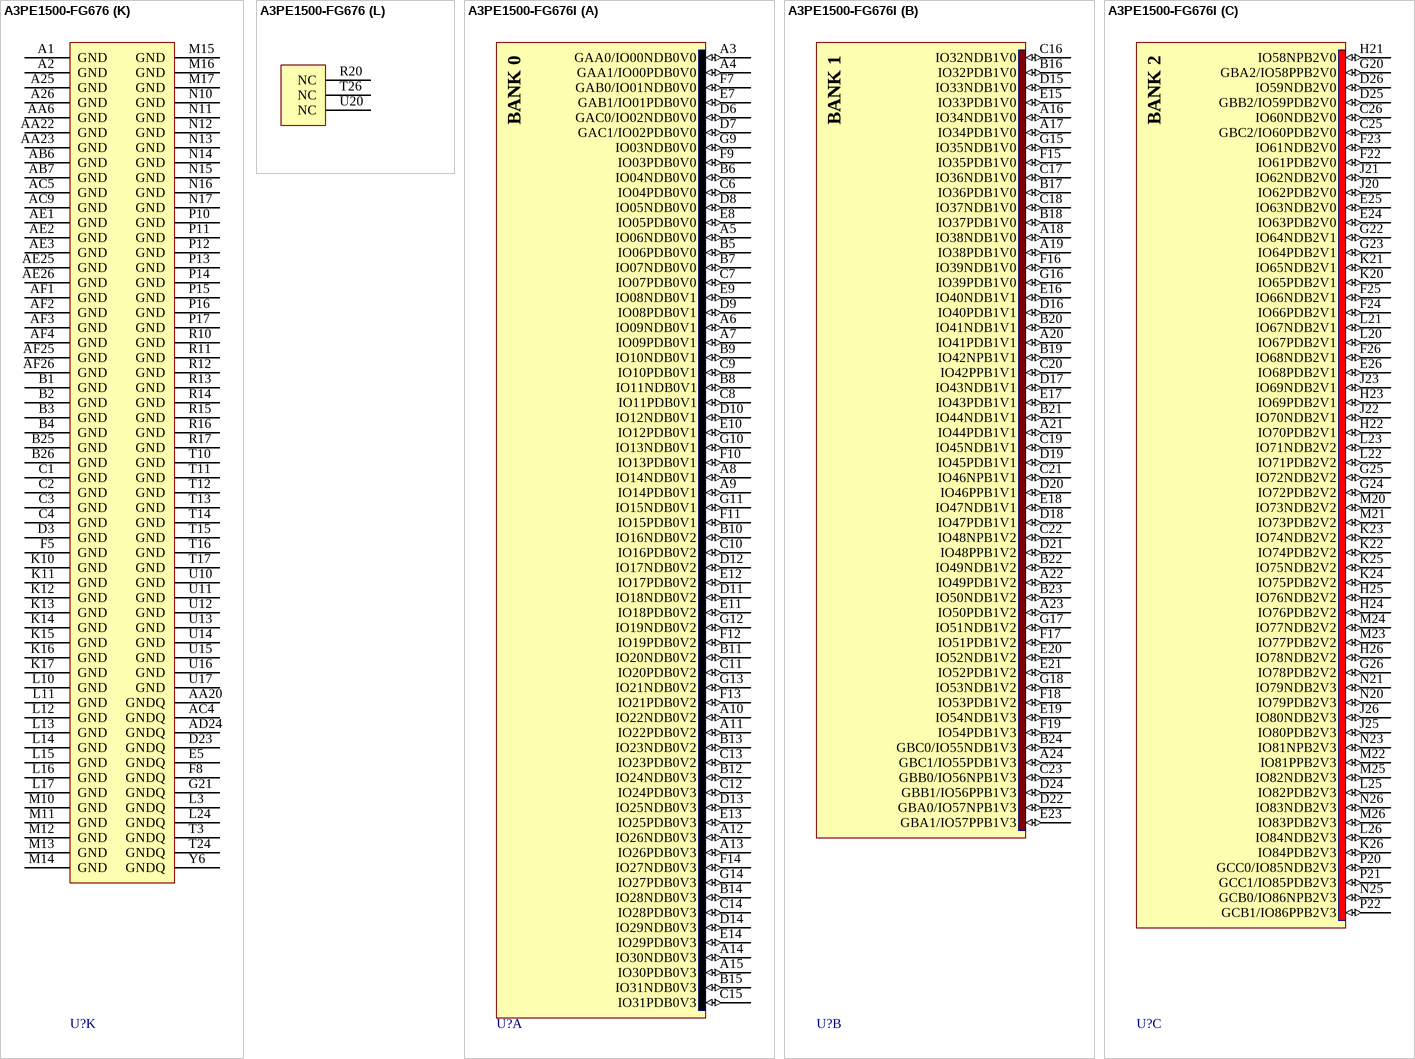
[diagram p41: symbols A3PE1500-FG676 to A3PE1500-FG676I]

## A3PE1500-FG676
designator U?
ProASIC3E Flash Family FPGA, 444 User IOs, 1.5M System Gates, 270 Kbits RAM, 1 Kbit FlashROM, 6 PLLs, 676-Ball FBGA, Commercial Grade; DatasheetVersion: v1.1, Feb-2009; PackageVersion: rev39, Aug-2010; PackageReference: FG676; PackageDescription: 676-Ball Fine Pitch Plastic Ball Grid Array (FG676); Code_JEDEC: MS-034-AAL-1; Code_IPC: BGA100P26X26-676; ComponentLink1Description: Manufacturer URL; ComponentLink1URL: http://www.actel.com/; ComponentLink2Description: ProASIC3 Datasheet; ComponentLink2URL: http://www.actel.com/documents/PA3E_DS.pdf; ComponentLink3Description: Package Mechanical Drawings; ComponentLink3URL: http://www.actel.com/documents/PckgMechDrwngs.pdf; ComponentLink4Description: ProASIC3 Documents; ComponentLink4URL: http://www.actel.com/products/pa3/docs.aspx
footprint FG676 (BGA, 676-Leads, Body 27x27mm, Pitch 1mm)
part A pins: A3 GAA0/IO00NDB0V0 (io), A4 GAA1/IO00PDB0V0 (io), A5 IO06NDB0V0 (io), A6 IO09NDB0V1 (io), A7 IO09PDB0V1 (io), A8 IO14NDB0V1 (io), A9 IO14PDB0V1 (io), A10 IO22NDB0V2 (io), A11 IO22PDB0V2 (io), A12 IO26NDB0V3 (io), A13 IO26PDB0V3 (io), A14 IO30NDB0V3 (io), A15 IO30PDB0V3 (io), B5 IO06PDB0V0 (io), B6 IO04NDB0V0 (io), B7 IO07NDB0V0 (io), B8 IO11NDB0V1 (io), B9 IO10NDB0V1 (io), B10 IO16NDB0V2 (io), B11 IO20NDB0V2 (io), B12 IO24NDB0V3 (io), B13 IO23NDB0V2 (io), B14 IO28NDB0V3 (io), B15 IO31NDB0V3 (io), C6 IO04PDB0V0 (io), C7 IO07PDB0V0 (io), C8 IO11PDB0V1 (io), C9 IO10PDB0V1 (io), C10 IO16PDB0V2 (io), C11 IO20PDB0V2 (io), C12 IO24PDB0V3 (io), C13 IO23PDB0V2 (io), C14 IO28PDB0V3 (io), C15 IO31PDB0V3 (io), D6 GAC0/IO02NDB0V0 (io), D7 GAC1/IO02PDB0V0 (io), D8 IO05NDB0V0 (io), D9 IO08PDB0V1 (io), D10 IO12NDB0V1 (io), D11 IO18NDB0V2 (io), D12 IO17NDB0V2 (io), D13 IO25NDB0V3 (io), D14 IO29NDB0V3 (io), E7 GAB1/IO01PDB0V0 (io), E8 IO05PDB0V0 (io), E9 IO08NDB0V1 (io), E10 IO12PDB0V1 (io), E11 IO18PDB0V2 (io), E12 IO17PDB0V2 (io), E13 IO25PDB0V3 (io), E14 IO29PDB0V3 (io), F7 GAB0/IO01NDB0V0 (io), F9 IO03PDB0V0 (io), F10 IO13PDB0V1 (io), F11 IO15PDB0V1 (io), F12 IO19PDB0V2 (io), F13 IO21PDB0V2 (io), F14 IO27NDB0V3 (io), G9 IO03NDB0V0 (io), G10 IO13NDB0V1 (io), G11 IO15NDB0V1 (io), G12 IO19NDB0V2 (io), G13 IO21NDB0V2 (io), G14 IO27PDB0V3 (io)
part B pins: A16 IO34NDB1V0 (io), A17 IO34PDB1V0 (io), A18 IO38NDB1V0 (io), A19 IO38PDB1V0 (io), A20 IO41PDB1V1 (io), A21 IO44PDB1V1 (io), A22 IO49PDB1V2 (io), A23 IO50PDB1V2 (io), A24 GBC1/IO55PDB1V3 (io), B16 IO32PDB1V0 (io), B17 IO36PDB1V0 (io), B18 IO37PDB1V0 (io), B19 IO42NPB1V1 (io), B20 IO41NDB1V1 (io), B21 IO44NDB1V1 (io), B22 IO49NDB1V2 (io), B23 IO50NDB1V2 (io), B24 GBC0/IO55NDB1V3 (io), C16 IO32NDB1V0 (io), C17 IO36NDB1V0 (io), C18 IO37NDB1V0 (io), C19 IO45NDB1V1 (io), C20 IO42PPB1V1 (io), C21 IO46NPB1V1 (io), C22 IO48NPB1V2 (io), C23 GBB0/IO56NPB1V3 (io), D15 IO33NDB1V0 (io), D16 IO40PDB1V1 (io), D17 IO43NDB1V1 (io), D18 IO47PDB1V1 (io), D19 IO45PDB1V1 (io), D20 IO46PPB1V1 (io), D21 IO48PPB1V2 (io), D22 GBA0/IO57NPB1V3 (io), D24 GBB1/IO56PPB1V3 (io), E15 IO33PDB1V0 (io), E16 IO40NDB1V1 (io), E17 IO43PDB1V1 (io), E18 IO47NDB1V1 (io), E19 IO54NDB1V3 (io), E20 IO52NDB1V2 (io), E21 IO52PDB1V2 (io), E23 GBA1/IO57PPB1V3 (io), F15 IO35PDB1V0 (io), F16 IO39NDB1V0 (io), F17 IO51PDB1V2 (io), F18 IO53PDB1V2 (io), F19 IO54PDB1V3 (io), G15 IO35NDB1V0 (io), G16 IO39PDB1V0 (io), G17 IO51NDB1V2 (io), G18 IO53NDB1V2 (io)
part C pins: C25 GBC2/IO60PDB2V0 (io), C26 IO60NDB2V0 (io), D25 GBB2/IO59PDB2V0 (io), D26 IO59NDB2V0 (io), E24 IO63PDB2V0 (io), E25 IO63NDB2V0 (io), E26 IO68PDB2V1 (io), F22 IO61PDB2V0 (io), F23 IO61NDB2V0 (io), F24 IO66PDB2V1 (io), F25 IO66NDB2V1 (io), F26 IO68NDB2V1 (io), G20 GBA2/IO58PPB2V0 (io), G22 IO64NDB2V1 (io), G23 IO64PDB2V1 (io), G24 IO72PDB2V2 (io), G25 IO72NDB2V2 (io), G26 IO78PDB2V2 (io), H21 IO58NPB2V0 (io), H22 IO70PDB2V1 (io), H23 IO69PDB2V1 (io), H24 IO76PDB2V2 (io), H25 IO76NDB2V2 (io), H26 IO78NDB2V2 (io), J20 IO62PDB2V0 (io), J21 IO62NDB2V0 (io), J22 IO70NDB2V1 (io), J23 IO69NDB2V1 (io), J25 IO80PDB2V3 (io), J26 IO80NDB2V3 (io), K20 IO65PDB2V1 (io), K21 IO65NDB2V1 (io), K22 IO74PDB2V2 (io), K23 IO74NDB2V2 (io), K24 IO75PDB2V2 (io), K25 IO75NDB2V2 (io), K26 IO84PDB2V3 (io), L20 IO67PDB2V1 (io), L21 IO67NDB2V1 (io), L22 IO71PDB2V2 (io), L23 IO71NDB2V2 (io), L25 IO82PDB2V3 (io), L26 IO84NDB2V3 (io), M20 IO73NDB2V2 (io), M21 IO73PDB2V2 (io), M22 IO81PPB2V3 (io), M23 IO77PDB2V2 (io), M24 IO77NDB2V2 (io), M25 IO82NDB2V3 (io), M26 IO83PDB2V3 (io), N20 IO79PDB2V3 (io), N21 IO79NDB2V3 (io), N23 IO81NPB2V3 (io), N25 GCB0/IO86NPB2V3 (io), N26 IO83NDB2V3 (io), P20 GCC0/IO85NDB2V3 (io), P21 GCC1/IO85PDB2V3 (io), P22 GCB1/IO86PPB2V3 (io)
part D pins: AA24 IO102NDB3V1 (io), AA25 IO102PDB3V1 (io), AA26 IO98NDB3V1 (io), AB23 GDC0/IO108NDB3V2 (io), AB24 GDC1/IO108PDB3V2 (io), AB25 IO104NDB3V2 (io), AB26 IO104PDB3V2 (io), AC25 IO106NDB3V2 (io), AC26 IO106PDB3V2 (io), AD25 GDA0/IO110NDB3V2 (io), AD26 GDA1/IO110PDB3V2 (io), N22 GCA2/IO88PPB3V0 (io), N24 GCA0/IO87NDB3V0 (io), P23 IO88NPB3V0 (io), P24 GCA1/IO87PDB3V0 (io), R21 IO89NDB3V0 (io), R22 GCB2/IO89PDB3V0 (io), R23 IO90NDB3V0 (io), R24 GCC2/IO90PDB3V0 (io), R25 IO91PDB3V0 (io), R26 IO91NDB3V0 (io), T20 IO99PDB3V1 (io), T21 IO99NDB3V1 (io), T22 IO97PDB3V1 (io), T23 IO97NDB3V1 (io), T25 IO93PPB3V0 (io), U21 IO101NDB3V1 (io), U22 IO101PDB3V1 (io), U23 IO92NDB3V0 (io), U24 IO92PDB3V0 (io), U25 IO95PDB3V1 (io), U26 IO93NPB3V0 (io), V20 IO107PDB3V2 (io), V21 IO107NDB3V2 (io), V22 IO103NDB3V2 (io), V23 IO103PDB3V2 (io), V25 IO95NDB3V1 (io), V26 IO94PDB3V0 (io), W21 GDB0/IO109NDB3V2 (io), W22 GDB1/IO109PDB3V2 (io), W23 IO105NDB3V2 (io), W24 IO105PDB3V2 (io), W25 IO96PDB3V1 (io), W26 IO94NDB3V0 (io), Y23 IO100NDB3V1 (io), Y24 IO100PDB3V1 (io), Y25 IO96NDB3V1 (io), Y26 IO98PDB3V1 (io)
part E pins: AA15 IO123NDB4V1 (io), AA16 IO123PDB4V1 (io), AA17 IO117NDB4V0 (io), AA18 IO117PDB4V0 (io), AA19 GDB2/IO112PDB4V0 (io), AB15 IO132PDB4V2 (io), AB16 IO129PDB4V2 (io), AB17 IO121PDB4V1 (io), AB18 IO119NDB4V1 (io), AB19 IO112NDB4V0 (io), AC15 IO132NDB4V2 (io), AC16 IO129NDB4V2 (io), AC17 IO121NDB4V1 (io), AC18 IO119PDB4V1 (io), AC19 IO118NDB4V0 (io), AC20 IO118PDB4V0 (io), AC21 IO114PPB4V0 (io), AD15 IO134PDB4V2 (io), AD16 IO133PDB4V2 (io), AD17 IO127PDB4V2 (io), AD18 IO130PDB4V2 (io), AD19 IO126PDB4V1 (io), AD20 IO124PDB4V1 (io), AD21 IO120PDB4V1 (io), AD22 IO114NPB4V0 (io), AE15 IO134NDB4V2 (io), AE16 IO133NDB4V2 (io), AE17 IO127NDB4V2 (io), AE18 IO130NDB4V2 (io), AE19 IO126NDB4V1 (io), AE20 IO124NDB4V1 (io), AE21 IO120NDB4V1 (io), AE22 IO116PDB4V0 (io), AE23 GDC2/IO113PDB4V0 (io), AE24 GDA2/IO111PDB4V0 (io), AF16 IO131NDB4V2 (io), AF17 IO131PDB4V2 (io), AF18 IO128NDB4V2 (io), AF19 IO128PDB4V2 (io), AF20 IO122NDB4V1 (io), AF21 IO122PDB4V1 (io), AF22 IO116NDB4V0 (io), AF23 IO113NDB4V0 (io), AF24 IO111NDB4V0 (io), Y15 IO125NDB4V1 (io), Y16 IO125PDB4V1 (io), Y17 IO115NDB4V0 (io), Y18 IO115PDB4V0 (io)
part F pins: AA7 IO165NDB5V3 (io), AA8 GEB2/IO165PDB5V3 (io), AA9 IO163PDB5V3 (io), AA10 IO159NDB5V3 (io), AA11 IO153NDB5V2 (io), AA12 IO147NDB5V1 (io), AA13 IO139NDB5V0 (io), AA14 IO137NDB5V0 (io), AB8 IO156NDB5V2 (io), AB9 IO156PDB5V2 (io), AB10 IO150PDB5V1 (io), AB11 IO155PDB5V2 (io), AB12 IO142PDB5V0 (io), AB13 IO135NDB5V0 (io), AB14 IO135PDB5V0 (io), AC3 IO166NPB5V3 (io), AC6 IO160PDB5V3 (io), AC7 IO161PDB5V3 (io), AC8 IO154PDB5V2 (io), AC10 IO150NDB5V1 (io), AC11 IO155NDB5V2 (io), AC12 IO142NDB5V0 (io), AC13 IO138NDB5V0 (io), AC14 IO138PDB5V0 (io), AD2 GEA2/IO166PPB5V3 (io), AD4 GEC2/IO164PDB5V3 (io), AD5 IO162PDB5V3 (io), AD6 IO160NDB5V3 (io), AD7 IO161NDB5V3 (io), AD8 IO154NDB5V2 (io), AD9 IO148PDB5V1 (io), AD10 IO151PDB5V2 (io), AD11 IO144PDB5V1 (io), AD12 IO140PDB5V0 (io), AD13 IO143PDB5V1 (io), AD14 IO141PDB5V0 (io), AE4 IO164NDB5V3 (io), AE5 IO162NDB5V3 (io), AE6 IO158PPB5V2 (io), AE7 IO157PPB5V2 (io), AE8 IO152PPB5V2 (io), AE9 IO148NDB5V1 (io), AE10 IO151NDB5V2 (io), AE11 IO144NDB5V1 (io), AE12 IO140NDB5V0 (io), AE13 IO143NDB5V1 (io), AE14 IO141NDB5V0 (io), AF5 IO158NPB5V2 (io), AF6 IO157NPB5V2 (io), AF7 IO152NPB5V2 (io), AF8 IO146NDB5V1 (io), AF9 IO146PDB5V1 (io), AF10 IO149NDB5V1 (io), AF11 IO149PDB5V1 (io), AF12 IO145NDB5V1 (io), AF13 IO145PDB5V1 (io), AF14 IO136NDB5V0 (io), AF15 IO136PDB5V0 (io), Y9 IO163NDB5V3 (io), Y10 IO159PDB5V3 (io), Y11 IO153PDB5V2 (io), Y12 IO147PDB5V1 (io), Y13 IO139PDB5V0 (io), Y14 IO137PDB5V0 (io)
part G pins: AA1 IO174PDB6V0 (io), AA2 IO171PDB6V0 (io), AA3 GEA1/IO167PPB6V0 (io), AA4 GEC0/IO169NPB6V0 (io), AB1 IO174NDB6V0 (io), AB2 IO171NDB6V0 (io), AB3 GEB1/IO168PPB6V0 (io), AB4 GEA0/IO167NPB6V0 (io), AC1 IO170PDB6V0 (io), AC2 GEB0/IO168NPB6V0 (io), AD1 IO170NDB6V0 (io), N5 GFA0/IO190NDB6V2 (io), P1 GFA2/IO189PDB6V2 (io), P5 GFA1/IO190PDB6V2 (io), R1 IO189NDB6V2 (io), R2 IO185PDB6V2 (io), R3 IO187NPB6V2 (io), R5 GFC2/IO187PPB6V2 (io), T1 IO186PDB6V2 (io), T2 IO185NDB6V2 (io), T4 IO180PDB6V1 (io), T5 IO180NDB6V1 (io), T6 IO188NDB6V2 (io), T7 GFB2/IO188PDB6V2 (io), U1 IO186NDB6V2 (io), U2 IO184NDB6V2 (io), U3 IO184PDB6V2 (io), U4 IO182NDB6V1 (io), U5 IO182PDB6V1 (io), U6 IO178PDB6V1 (io), U7 IO178NDB6V1 (io), V1 IO183PDB6V2 (io), V2 IO183NDB6V2 (io), V4 IO181PDB6V1 (io), V5 IO181NDB6V1 (io), V6 IO176PDB6V1 (io), V7 IO176NDB6V1 (io), W1 IO179NDB6V1 (io), W2 IO179PDB6V1 (io), W3 IO177NDB6V1 (io), W4 IO177PDB6V1 (io), W5 IO172PDB6V0 (io), W6 IO172NDB6V0 (io), Y1 IO175NDB6V1 (io), Y2 IO175PDB6V1 (io), Y3 IO173NDB6V0 (io), Y4 IO173PDB6V0 (io), Y5 GEC1/IO169PPB6V0 (io)
part H pins: C5 GAA2/IO221PDB7V3 (io), D1 IO218NDB7V3 (io), D2 IO218PDB7V3 (io), D5 IO221NDB7V3 (io), E1 IO212PDB7V2 (io), E2 IO211NDB7V2 (io), E3 IO211PDB7V2 (io), E4 IO220NPB7V3 (io), E6 GAB2/IO220PPB7V3 (io), F1 IO212NDB7V2 (io), F2 IO203PPB7V1 (io), F3 IO213NDB7V2 (io), F4 IO213PDB7V2 (io), G1 IO203NPB7V1 (io), G2 IO207NDB7V2 (io), G3 IO207PDB7V2 (io), G4 IO216NDB7V3 (io), G5 IO216PDB7V3 (io), H1 IO208NDB7V2 (io), H2 IO208PDB7V2 (io), H3 IO209NDB7V2 (io), H4 IO209PDB7V2 (io), H5 IO219NDB7V3 (io), H6 GAC2/IO219PDB7V3 (io), J1 IO197NDB7V0 (io), J2 IO197PDB7V0 (io), J4 IO215NDB7V3 (io), J5 IO215PDB7V3 (io), J6 IO214PDB7V3 (io), J7 IO214NDB7V3 (io), K1 IO195PDB7V0 (io), K2 IO199NDB7V1 (io), K3 IO199PDB7V1 (io), K4 IO205NDB7V1 (io), K5 IO205PDB7V1 (io), K6 IO217PDB7V3 (io), K7 IO217NDB7V3 (io), L1 IO195NDB7V0 (io), L2 IO198PPB7V0 (io), L4 IO201PDB7V1 (io), L5 IO201NDB7V1 (io), L6 IO210NDB7V2 (io), L7 IO210PDB7V2 (io), M1 IO198NPB7V0 (io), M2 IO202PDB7V1 (io), M3 IO202NDB7V1 (io), M4 IO206NDB7V1 (io), M5 IO206PDB7V1 (io), M6 IO204NDB7V1 (io), M7 IO204PDB7V1 (io), N1 GFB0/IO191NPB7V0 (io), N3 GFB1/IO191PPB7V0 (io), N4 IO196PDB7V0 (io), N6 IO200PDB7V1 (io), N7 IO200NDB7V1 (io), P3 IO193PPB7V0 (io), P4 IO196NDB7V0 (io), P6 IO194PDB7V0 (io), P7 IO194NDB7V0 (io), R4 IO193NPB7V0 (io), R6 GFC1/IO192PDB7V0 (io), R7 GFC0/IO192NDB7V0 (io)
part I pins: AA21 TDO (out), AB21 TCK (in), AB22 ~{TRST} (in), AC22 TMS (in), AD23 TDI (in)
part J pins: AA5 VCOMPLE (power), AB5 VCCPLE (power), AB20 VMV4 (power), AC23 VJTAG (power), AC24 VMV3 (power), AD3 VMV5 (power), C24 VMV1 (power), D4 VMV7 (power), E22 VCCPLB (power), F6 VCCPLA (power), F20 VMV2 (power), F21 VCOMPLB (power), G6 VCOMPLA (power), G7 VMV0 (power), G8 VCC (power), G19 VCCIB1 (power), H7 VCCIB7 (power), H8 VCC (power), H9 VCCIB0 (power), H10 VCCIB0 (power), H11 VCCIB0 (power), H12 VCCIB0 (power), H13 VCCIB0 (power), H14 VCCIB1 (power), H15 VCCIB1 (power), H16 VCCIB1 (power), H17 VCCIB1 (power), H18 VCCIB1 (power), H19 VCC (power), H20 VCC (power), J3 VMV7 (power), J8 VCCIB7 (power), J9 VCC (power), J10 VCC (power), J11 VCC (power), J12 VCC (power), J13 VCC (power), J14 VCC (power), J15 VCC (power), J16 VCC (power), J17 VCC (power), J18 VCC (power), J19 VCCIB2 (power), J24 VMV2 (power), K8 VCCIB7 (power), K9 VCC (power), K18 VCC (power), K19 VCCIB2 (power), L8 VCCIB7 (power), L9 VCC (power), L18 VCC (power), L19 VCCIB2 (power), M8 VCCIB7 (power), M9 VCC (power), M18 VCC (power), M19 VCCIB2 (power), N2 VCOMPLF (power), N8 VCCIB7 (power), N9 VCC (power), N18 VCC (power), N19 VCCIB2 (power), P2 VCCPLF (power), P8 VCCIB6 (power), P9 VCC (power), P18 VCC (power), P19 VCCIB3 (power), P25 VCCPLC (power), P26 VCOMPLC (power), R8 VCCIB6 (power), R9 VCC (power), R18 VCC (power), R19 VCCIB3 (power), T8 VCCIB6 (power), T9 VCC (power), T18 VCC (power), T19 VCCIB3 (power), U8 VCCIB6 (power), U9 VCC (power), U18 VCC (power), U19 VCCIB3 (power), V3 VMV6 (power), V8 VCCIB6 (power), V9 VCC (power), V10 VCC (power), V11 VCC (power), V12 VCC (power), V13 VCC (power), V14 VCC (power), V15 VCC (power), V16 VCC (power), V17 VCC (power), V18 VCC (power), V19 VCCIB3 (power), V24 VMV3 (power), W7 VCC (power), W8 VCC (power), W9 VCCIB5 (power), W10 VCCIB5 (power), W11 VCCIB5 (power), W12 VCCIB5 (power), W13 VCCIB5 (power), W14 VCCIB4 (power), W15 VCCIB4 (power), W16 VCCIB4 (power), W17 VCCIB4 (power), W18 VCCIB4 (power), W19 VCC (power), W20 VCCIB3 (power), Y7 VMV6 (power), Y8 VCCIB5 (power), Y19 VCC (power), Y20 VPUMP (power), Y21 VCOMPLD (power), Y22 VCCPLD (power)
part K pins: A1 GND (power), A2 GND (power), A25 GND (power), A26 GND (power), AA6 GND (power), AA20 GNDQ (power), AA22 GND (power), AA23 GND (power), AB6 GND (power), AB7 GND (power), AC4 GNDQ (power), AC5 GND (power), AC9 GND (power), AD24 GNDQ (power), AE1 GND (power), AE2 GND (power), AE3 GND (power), AE25 GND (power), AE26 GND (power), AF1 GND (power), AF2 GND (power), AF3 GND (power), AF4 GND (power), AF25 GND (power), AF26 GND (power), B1 GND (power), B2 GND (power), B3 GND (power), B4 GND (power), B25 GND (power), B26 GND (power), C1 GND (power), C2 GND (power), C3 GND (power), C4 GND (power), D3 GND (power), D23 GNDQ (power), E5 GNDQ (power), F5 GND (power), F8 GNDQ (power), G21 GNDQ (power), K10 GND (power), K11 GND (power), K12 GND (power), K13 GND (power), K14 GND (power), K15 GND (power), K16 GND (power), K17 GND (power), L3 GNDQ (power), L10 GND (power), L11 GND (power), L12 GND (power), L13 GND (power), L14 GND (power), L15 GND (power), L16 GND (power), L17 GND (power), L24 GNDQ (power), M10 GND (power), M11 GND (power), M12 GND (power), M13 GND (power), M14 GND (power), M15 GND (power), M16 GND (power), M17 GND (power), N10 GND (power), N11 GND (power), N12 GND (power), N13 GND (power), N14 GND (power), N15 GND (power), N16 GND (power), N17 GND (power), P10 GND (power), P11 GND (power), P12 GND (power), P13 GND (power), P14 GND (power), P15 GND (power), P16 GND (power), P17 GND (power), R10 GND (power), R11 GND (power), R12 GND (power), R13 GND (power), R14 GND (power), R15 GND (power), R16 GND (power), R17 GND (power), T3 GNDQ (power), T10 GND (power), T11 GND (power), T12 GND (power), T13 GND (power), T14 GND (power), T15 GND (power), T16 GND (power), T17 GND (power), T24 GNDQ (power), U10 GND (power), U11 GND (power), U12 GND (power), U13 GND (power), U14 GND (power), U15 GND (power), U16 GND (power), U17 GND (power), Y6 GNDQ (power)
part L pins: R20 NC, T26 NC, U20 NC
part A text: BANK 0
part B text: BANK 1
part C text: BANK 2
part D text: BANK 3
part E text: BANK 4
part F text: BANK 5
part G text: BANK 6
part H text: BANK 7

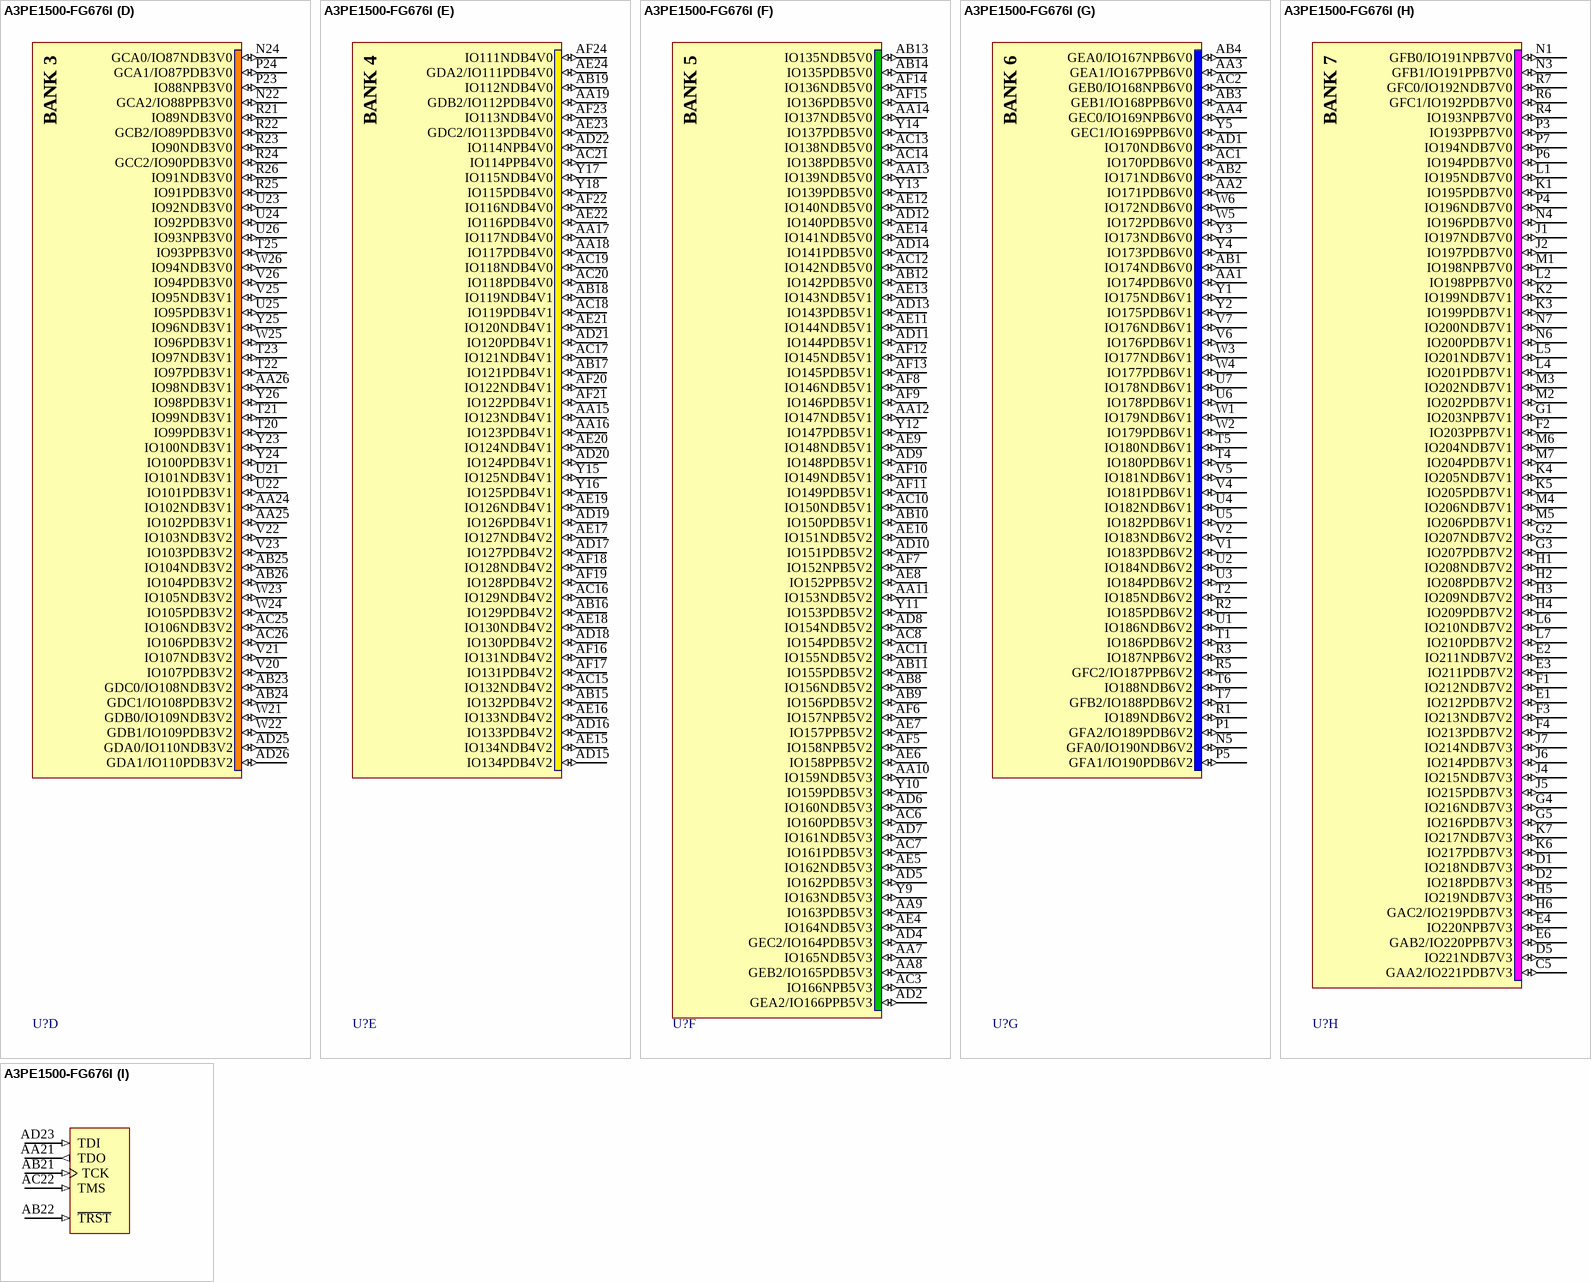
[diagram p42: symbol A3PE1500-FG676I]

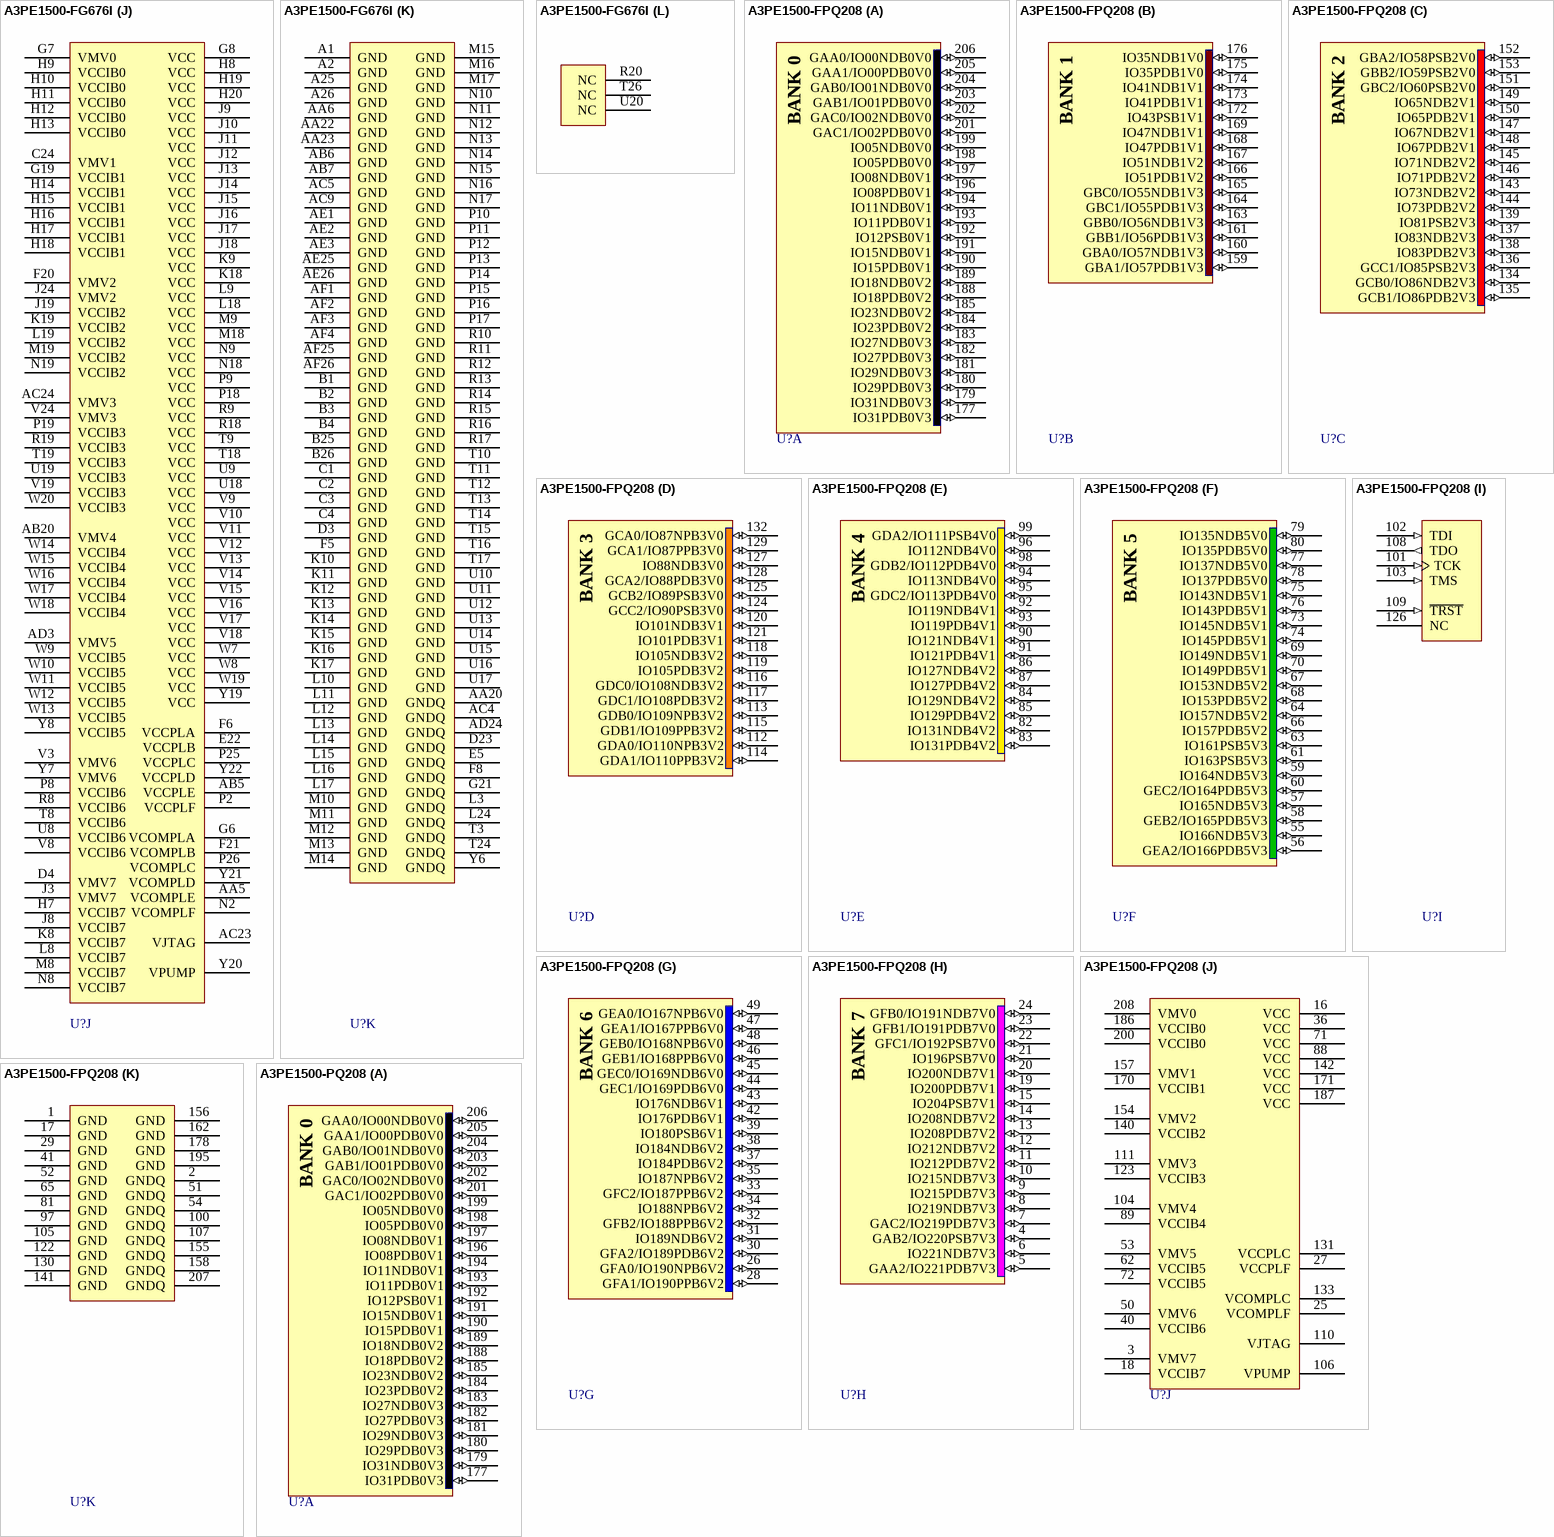
[diagram p43: symbols A3PE1500-FG676I to A3PE1500-PQ208]